# Altium footprint library BGA_Rect.PcbLib: 17 footprints (part 1 of 2)
Each footprint in its own frame and in the unit in brackets; x right, y up, seen from the top. Pads: shape width x height; smd on the part's side, far side on the other; paste and mask are expansions set on the pad; w line width, h text height; cw(c..) or ccw(c..) is an arc to the next point about the centre after c.
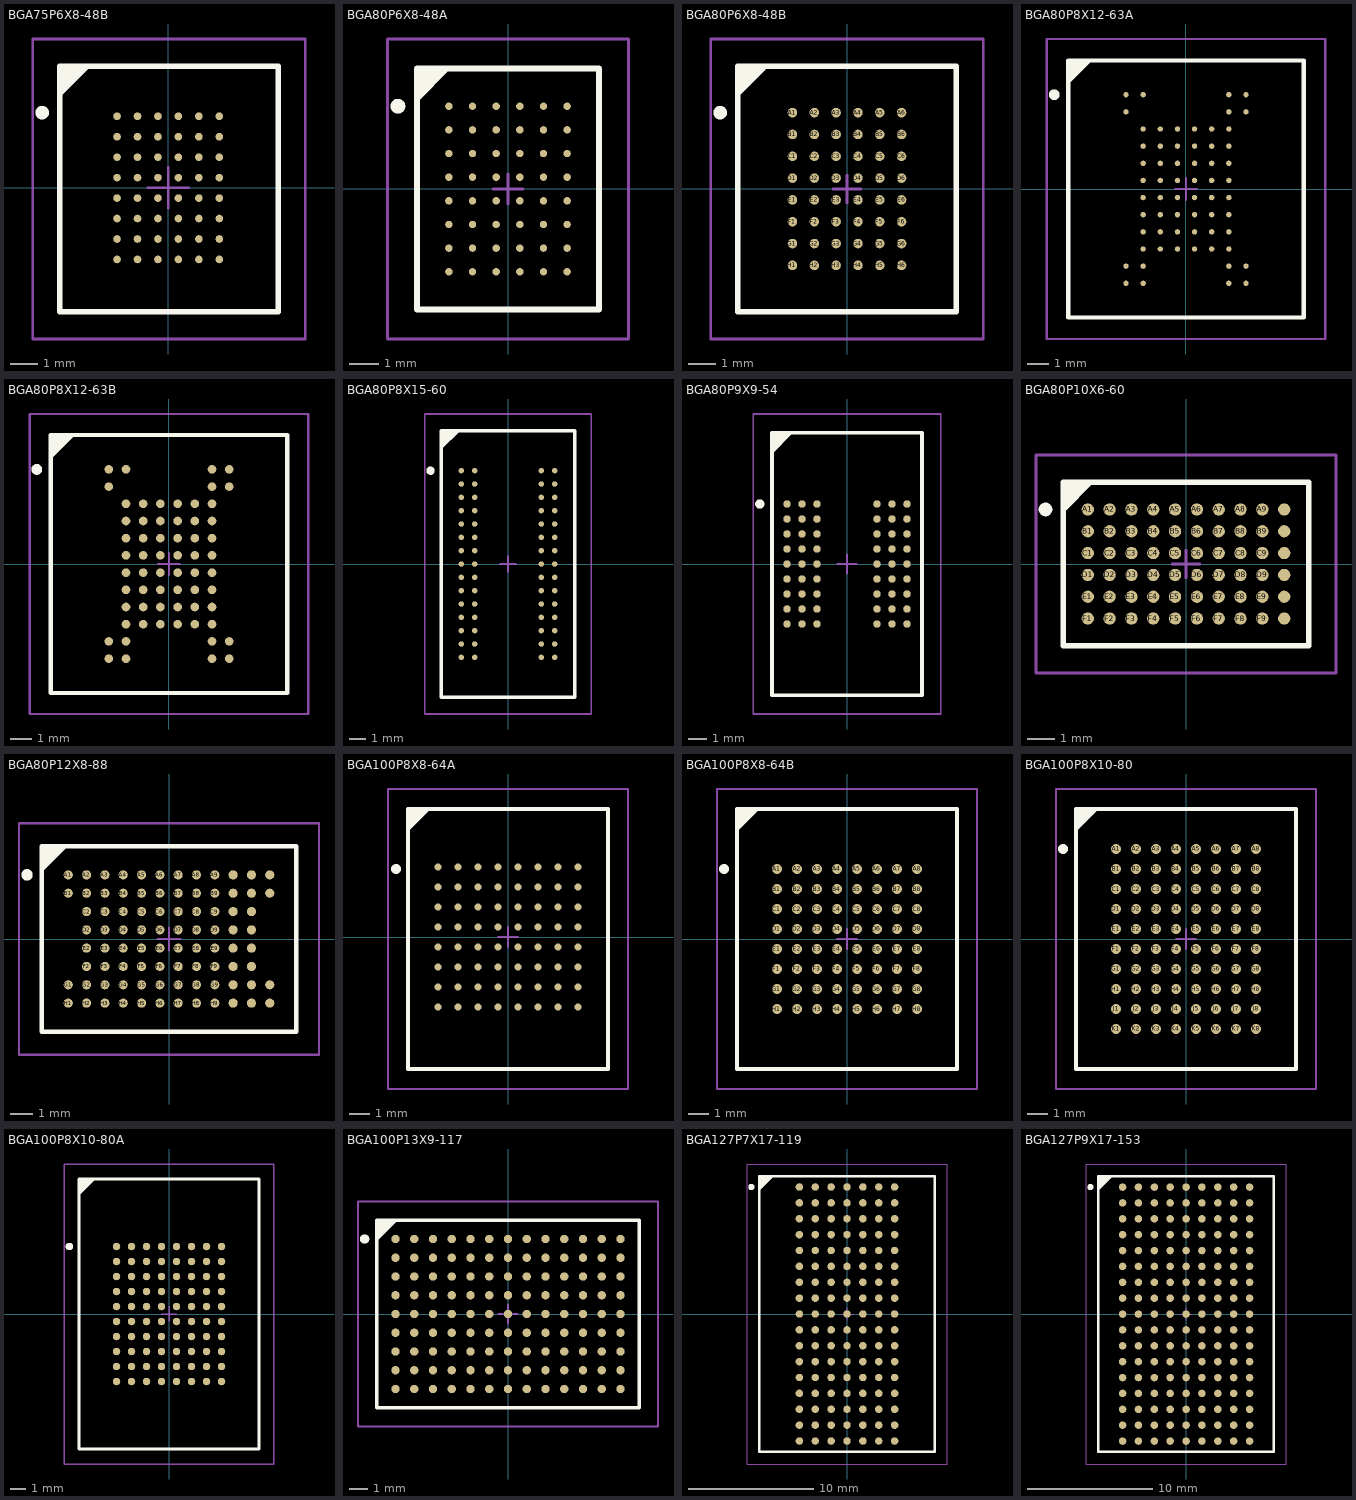
[diagram p0: the footprints below, top view; thin cyan lines are the x and y axes]

## BGA75P6X8-48B [mm] "BGA, 48-Leads, Body 9x8mm, Pitch 0.75mm"
height 1.2
pads (48):
  round 0.28 smd mask+0.09: A1(-1.875,2.625) A2(-1.125,2.625) A3(-0.375,2.625) A4(0.375,2.625) A5(1.125,2.625) A6(1.875,2.625) B1(-1.875,1.875) B2(-1.125,1.875) B3(-0.375,1.875) B4(0.375,1.875) B5(1.125,1.875) B6(1.875,1.875) C1(-1.875,1.125) C2(-1.125,1.125) C3(-0.375,1.125) C4(0.375,1.125) C5(1.125,1.125) C6(1.875,1.125) D1(-1.875,0.375) D2(-1.125,0.375) D3(-0.375,0.375) D4(0.375,0.375) D5(1.125,0.375) D6(1.875,0.375) E1(-1.875,-0.375) E2(-1.125,-0.375) E3(-0.375,-0.375) E4(0.375,-0.375) E5(1.125,-0.375) E6(1.875,-0.375) F1(-1.875,-1.125) F2(-1.125,-1.125) F3(-0.375,-1.125) F4(0.375,-1.125) F5(1.125,-1.125) F6(1.875,-1.125) G1(-1.875,-1.875) G2(-1.125,-1.875) G3(-0.375,-1.875) G4(0.375,-1.875) G5(1.125,-1.875) G6(1.875,-1.875) H1(-1.875,-2.625) H2(-1.125,-2.625) H3(-0.375,-2.625) H4(0.375,-2.625) H5(1.125,-2.625) H6(1.875,-2.625)
Top Overlay:
  circle w0.25: c-4.62,2.758 r0.125
  region: -2.97,4.458 -3.97,3.458 -3.97,4.458
  lines w0.2: -3.97,3.458 -2.97,4.458 ; -3.97,-4.542 -3.97,4.458 4.03,4.458 4.03,-4.542 -3.97,-4.542
Mechanical 13:
  lines w0.1: -3.97,-4.542 -3.97,4.458 4.03,4.458 4.03,-4.542 -3.97,-4.542
Mechanical 15:
  lines w0.1: -0.75,0 0.75,0 ; 0,-0.75 0,0.75 ; -4.97,-5.542 -4.97,5.458 5.03,5.458 5.03,-5.542 -4.97,-5.542
3D body: height 1.2, standoff 0, extent -4,-4.525 4,4.475

## BGA80P6X8-48A [mm] "48-Ball Fine Pitch Ball Grid Array Rectangular 0.8 mm Pitch"
height 1.2
pads (48):
  round 0.25 smd: A1(-2,2.8) A2(-1.2,2.8) A3(-0.4,2.8) A4(0.4,2.8) A5(1.2,2.8) A6(2,2.8) B1(-2,2) B2(-1.2,2) B3(-0.4,2) B4(0.4,2) B5(1.2,2) B6(2,2) C1(-2,1.2) C2(-1.2,1.2) C3(-0.4,1.2) C4(0.4,1.2) C5(1.2,1.2) C6(2,1.2) D1(-2,0.4) D2(-1.2,0.4) D3(-0.4,0.4) D4(0.4,0.4) D5(1.2,0.4) D6(2,0.4) E1(-2,-0.4) E2(-1.2,-0.4) E3(-0.4,-0.4) E4(0.4,-0.4) E5(1.2,-0.4) E6(2,-0.4) F1(-2,-1.2) F2(-1.2,-1.2) F3(-0.4,-1.2) F4(0.4,-1.2) F5(1.2,-1.2) F6(2,-1.2) G1(-2,-2) G2(-1.2,-2) G3(-0.4,-2) G4(0.4,-2) G5(1.2,-2) G6(2,-2) H1(-2,-2.8) H2(-1.2,-2.8) H3(-0.4,-2.8) H4(0.4,-2.8) H5(1.2,-2.8) H6(2,-2.8)
Top Overlay:
  circle w0.25: c-3.725,2.8 r0.125
  region: -2.075,4.075 -3.075,3.075 -3.075,4.075
  lines w0.2: -3.075,3.075 -2.075,4.075 ; -3.075,-4.075 3.075,-4.075 3.075,4.075 -3.075,4.075 -3.075,-4.075
Mechanical 13:
  lines w0.1: -3.075,-4.075 3.075,-4.075 3.075,4.075 -3.075,4.075 -3.075,-4.075
Mechanical 15:
  lines w0.1: -0.5,0 0.5,0 ; 0,-0.5 0,0.5 ; -4.075,-5.075 4.075,-5.075 4.075,5.075 -4.075,5.075 -4.075,-5.075
3D body: height 1.2, standoff 0, extent -3.075,-4.075 3.075,4.075

## BGA80P6X8-48B [mm] "BGA, 48-Leads, Body 9x8mm, Pitch 0.8mm"
height 1.2
pads (48):
  round 0.35 smd: A1(-2,2.8) A2(-1.2,2.8) A3(-0.4,2.8) A4(0.4,2.8) A5(1.2,2.8) A6(2,2.8) B1(-2,2) B2(-1.2,2) B3(-0.4,2) B4(0.4,2) B5(1.2,2) B6(2,2) C1(-2,1.2) C2(-1.2,1.2) C3(-0.4,1.2) C4(0.4,1.2) C5(1.2,1.2) C6(2,1.2) D1(-2,0.4) D2(-1.2,0.4) D3(-0.4,0.4) D4(0.4,0.4) D5(1.2,0.4) D6(2,0.4) E1(-2,-0.4) E2(-1.2,-0.4) E3(-0.4,-0.4) E4(0.4,-0.4) E5(1.2,-0.4) E6(2,-0.4) F1(-2,-1.2) F2(-1.2,-1.2) F3(-0.4,-1.2) F4(0.4,-1.2) F5(1.2,-1.2) F6(2,-1.2) G1(-2,-2) G2(-1.2,-2) G3(-0.4,-2) G4(0.4,-2) G5(1.2,-2) G6(2,-2) H1(-2,-2.8) H2(-1.2,-2.8) H3(-0.4,-2.8) H4(0.4,-2.8) H5(1.2,-2.8) H6(2,-2.8)
Top Overlay:
  circle w0.25: c-4.65,2.8 r0.125
  region: -3,4.5 -4,3.5 -4,4.5
  lines w0.2: -4,3.5 -3,4.5 ; -4,-4.5 4,-4.5 4,4.5 -4,4.5 -4,-4.5
Mechanical 13:
  lines w0.1: -4,-4.5 4,-4.5 4,4.5 -4,4.5 -4,-4.5
Mechanical 15:
  lines w0.1: -0.5,0 0.5,0 ; 0,-0.5 0,0.5 ; -5,-5.5 5,-5.5 5,5.5 -5,5.5 -5,-5.5
3D body: height 1.2, standoff 0, extent -4,-4.5 4,4.5

## BGA80P8X12-63A [mm] "63-Ball Fine Pitch Ball Grid Array Rectangular 0.8 mm Pitch"
height 1.2
pads (63):
  round 0.25 smd: A1(-2.8,4.4) A2(-2,4.4) A7(2,4.4) A8(2.8,4.4) B1(-2.8,3.6) B7(2,3.6) B8(2.8,3.6) C2(-2,2.8) C3(-1.2,2.8) C4(-0.4,2.8) C5(0.4,2.8) C6(1.2,2.8) C7(2,2.8) D2(-2,2) D3(-1.2,2) D4(-0.4,2) D5(0.4,2) D6(1.2,2) D7(2,2) E2(-2,1.2) E3(-1.2,1.2) E4(-0.4,1.2) E5(0.4,1.2) E6(1.2,1.2) E7(2,1.2) F2(-2,0.4) F3(-1.2,0.4) F4(-0.4,0.4) F5(0.4,0.4) F6(1.2,0.4) F7(2,0.4) G2(-2,-0.4) G3(-1.2,-0.4) G4(-0.4,-0.4) G5(0.4,-0.4) G6(1.2,-0.4) G7(2,-0.4) H2(-2,-1.2) H3(-1.2,-1.2) H4(-0.4,-1.2) H5(0.4,-1.2) H6(1.2,-1.2) H7(2,-1.2) J2(-2,-2) J3(-1.2,-2) J4(-0.4,-2) J5(0.4,-2) J6(1.2,-2) J7(2,-2) K2(-2,-2.8) K3(-1.2,-2.8) K4(-0.4,-2.8) K5(0.4,-2.8) K6(1.2,-2.8) K7(2,-2.8) L1(-2.8,-3.6) L2(-2,-3.6) L7(2,-3.6) L8(2.8,-3.6) M1(-2.8,-4.4) M2(-2,-4.4) M7(2,-4.4) M8(2.8,-4.4)
Top Overlay:
  circle w0.25: c-6.15,4.4 r0.125
  region: -4.5,6 -5.5,5 -5.5,6
  lines w0.2: -5.5,5 -4.5,6 ; -5.5,-6 -5.5,6 5.5,6 5.5,-6 -5.5,-6
Mechanical 13:
  lines w0.1: -5.5,-6 -5.5,6 5.5,6 5.5,-6 -5.5,-6
Mechanical 15:
  lines w0.1: -0.5,0 0.5,0 ; 0,-0.5 0,0.5 ; -6.5,-7 -6.5,7 6.5,7 6.5,-7 -6.5,-7
3D body: height 1.2, standoff 0, extent -5.5,-6 5.5,6

## BGA80P8X12-63B [mm] "63-Ball Fine Pitch Ball Grid Array Rectangular 0.8 mm Pitch"
height 1.7
pads (63):
  round 0.4 smd: A1(-2.8,4.4) A2(-2,4.4) A7(2,4.4) A8(2.8,4.4) B1(-2.8,3.6) B7(2,3.6) B8(2.8,3.6) C2(-2,2.8) C3(-1.2,2.8) C4(-0.4,2.8) C5(0.4,2.8) C6(1.2,2.8) C7(2,2.8) D2(-2,2) D3(-1.2,2) D4(-0.4,2) D5(0.4,2) D6(1.2,2) D7(2,2) E2(-2,1.2) E3(-1.2,1.2) E4(-0.4,1.2) E5(0.4,1.2) E6(1.2,1.2) E7(2,1.2) F2(-2,0.4) F3(-1.2,0.4) F4(-0.4,0.4) F5(0.4,0.4) F6(1.2,0.4) F7(2,0.4) G2(-2,-0.4) G3(-1.2,-0.4) G4(-0.4,-0.4) G5(0.4,-0.4) G6(1.2,-0.4) G7(2,-0.4) H2(-2,-1.2) H3(-1.2,-1.2) H4(-0.4,-1.2) H5(0.4,-1.2) H6(1.2,-1.2) H7(2,-1.2) J2(-2,-2) J3(-1.2,-2) J4(-0.4,-2) J5(0.4,-2) J6(1.2,-2) J7(2,-2) K2(-2,-2.8) K3(-1.2,-2.8) K4(-0.4,-2.8) K5(0.4,-2.8) K6(1.2,-2.8) K7(2,-2.8) L1(-2.8,-3.6) L2(-2,-3.6) L7(2,-3.6) L8(2.8,-3.6) M1(-2.8,-4.4) M2(-2,-4.4) M7(2,-4.4) M8(2.8,-4.4)
Top Overlay:
  circle w0.25: c-6.15,4.4 r0.125
  region: -4.5,6 -5.5,5 -5.5,6
  lines w0.2: -5.5,5 -4.5,6 ; -5.5,-6 -5.5,6 5.5,6 5.5,-6 -5.5,-6
Mechanical 13:
  lines w0.1: -5.475,-5.975 -5.475,5.975 5.475,5.975 5.475,-5.975 -5.475,-5.975
Mechanical 15:
  lines w0.1: -0.5,0 0.5,0 ; 0,-0.5 0,0.5 ; -6.475,-6.975 -6.475,6.975 6.475,6.975 6.475,-6.975 -6.475,-6.975
3D body: height 1.7, standoff 0, extent -5.475,-5.975 5.475,5.975

## BGA80P8X15-60 [mm] "BGA, 60-Leads, Body 16x8mm, Pitch 0.8mm"
height 1.2
pads (60):
  round 0.33 smd: A1(-2.8,5.6) A2(-2,5.6) A7(2,5.6) A8(2.8,5.6) B1(-2.8,4.8) B2(-2,4.8) B7(2,4.8) B8(2.8,4.8) C1(-2.8,4) C2(-2,4) C7(2,4) C8(2.8,4) D1(-2.8,3.2) D2(-2,3.2) D7(2,3.2) D8(2.8,3.2) E1(-2.8,2.4) E2(-2,2.4) E7(2,2.4) E8(2.8,2.4) F1(-2.8,1.6) F2(-2,1.6) F7(2,1.6) F8(2.8,1.6) G1(-2.8,0.8) G2(-2,0.8) G7(2,0.8) G8(2.8,0.8) H1(-2.8,0) H2(-2,0) H7(2,0) H8(2.8,0) J1(-2.8,-0.8) J2(-2,-0.8) J7(2,-0.8) J8(2.8,-0.8) K1(-2.8,-1.6) K2(-2,-1.6) K7(2,-1.6) K8(2.8,-1.6) L1(-2.8,-2.4) L2(-2,-2.4) L7(2,-2.4) L8(2.8,-2.4) M1(-2.8,-3.2) M2(-2,-3.2) M7(2,-3.2) M8(2.8,-3.2) N1(-2.8,-4) N2(-2,-4) N7(2,-4) N8(2.8,-4) P1(-2.8,-4.8) P2(-2,-4.8) P7(2,-4.8) P8(2.8,-4.8) R1(-2.8,-5.6) R2(-2,-5.6) R7(2,-5.6) R8(2.8,-5.6)
Top Overlay:
  circle w0.25: c-4.65,5.6 r0.125
  region: -3,8 -4,7 -4,8
  lines w0.2: -4,7 -3,8 ; -4,-8 -4,8 4,8 4,-8 -4,-8
Mechanical 13:
  lines w0.1: -4,-8 -4,8 4,8 4,-8 -4,-8
Mechanical 15:
  lines w0.1: -0.5,0 0.5,0 ; 0,-0.5 0,0.5 ; -5,-9 -5,9 5,9 5,-9 -5,-9
3D body: height 1.2, standoff 0, extent -4,-8 4,8

## BGA80P9X9-54 [mm] "54-Ball VFBGA, 8 x 14 mm Body, 0.8 mm Pitch (FG)"
height 1
pads (54):
  round 0.4 smd: A1(-3.2,3.2) A2(-2.4,3.2) A3(-1.6,3.2) A7(1.6,3.2) A8(2.4,3.2) A9(3.2,3.2) B1(-3.2,2.4) B2(-2.4,2.4) B3(-1.6,2.4) B7(1.6,2.4) B8(2.4,2.4) B9(3.2,2.4) C1(-3.2,1.6) C2(-2.4,1.6) C3(-1.6,1.6) C7(1.6,1.6) C8(2.4,1.6) C9(3.2,1.6) D1(-3.2,0.8) D2(-2.4,0.8) D3(-1.6,0.8) D7(1.6,0.8) D8(2.4,0.8) D9(3.2,0.8) E1(-3.2,0) E2(-2.4,0) E3(-1.6,0) E7(1.6,0) E8(2.4,0) E9(3.2,0) F1(-3.2,-0.8) F2(-2.4,-0.8) F3(-1.6,-0.8) F7(1.6,-0.8) F8(2.4,-0.8) F9(3.2,-0.8) G1(-3.2,-1.6) G2(-2.4,-1.6) G3(-1.6,-1.6) G7(1.6,-1.6) G8(2.4,-1.6) G9(3.2,-1.6) H1(-3.2,-2.4) H2(-2.4,-2.4) H3(-1.6,-2.4) H7(1.6,-2.4) H8(2.4,-2.4) H9(3.2,-2.4) J1(-3.2,-3.2) J2(-2.4,-3.2) J3(-1.6,-3.2) J7(1.6,-3.2) J8(2.4,-3.2) J9(3.2,-3.2)
Top Overlay:
  circle w0.25: c-4.65,3.2 r0.125
  region: -3,7 -4,6 -4,7
  lines w0.2: -4,6 -3,7 ; -4,-7 4,-7 4,7 -4,7 -4,-7
Mechanical 13:
  lines w0.1: -4,-7 4,-7 4,7 -4,7 -4,-7
Mechanical 15:
  lines w0.1: -0.5,0 0.5,0 ; 0,-0.5 0,0.5 ; -5,-8 5,-8 5,8 -5,8 -5,-8
3D body: height 1, standoff 0, extent -4,-7 4,7

## BGA80P10X6-60 [mm] "BGA, 60-Leads, Body 6x9mm, Pitch 0.8mm"
height 1.3
pads (60):
  round 0.45 smd: A1(-3.6,2) A2(-2.8,2) A3(-2,2) A4(-1.2,2) A5(-0.4,2) A6(0.4,2) A7(1.2,2) A8(2,2) A9(2.8,2) A10(3.6,2) B1(-3.6,1.2) B2(-2.8,1.2) B3(-2,1.2) B4(-1.2,1.2) B5(-0.4,1.2) B6(0.4,1.2) B7(1.2,1.2) B8(2,1.2) B9(2.8,1.2) B10(3.6,1.2) C1(-3.6,0.4) C2(-2.8,0.4) C3(-2,0.4) C4(-1.2,0.4) C5(-0.4,0.4) C6(0.4,0.4) C7(1.2,0.4) C8(2,0.4) C9(2.8,0.4) C10(3.6,0.4) D1(-3.6,-0.4) D2(-2.8,-0.4) D3(-2,-0.4) D4(-1.2,-0.4) D5(-0.4,-0.4) D6(0.4,-0.4) D7(1.2,-0.4) D8(2,-0.4) D9(2.8,-0.4) D10(3.6,-0.4) E1(-3.6,-1.2) E2(-2.8,-1.2) E3(-2,-1.2) E4(-1.2,-1.2) E5(-0.4,-1.2) E6(0.4,-1.2) E7(1.2,-1.2) E8(2,-1.2) E9(2.8,-1.2) E10(3.6,-1.2) F1(-3.6,-2) F2(-2.8,-2) F3(-2,-2) F4(-1.2,-2) F5(-0.4,-2) F6(0.4,-2) F7(1.2,-2) F8(2,-2) F9(2.8,-2) F10(3.6,-2)
Top Overlay:
  circle w0.25: c-5.15,2 r0.125
  region: -3.5,3 -4.5,2 -4.5,3
  lines w0.2: -4.5,2 -3.5,3 ; -4.5,-3 -4.5,3 4.5,3 4.5,-3 -4.5,-3
Mechanical 13:
  lines w0.1: -4.5,-3 -4.5,3 4.5,3 4.5,-3 -4.5,-3
Mechanical 15:
  lines w0.1: -0.5,0 0.5,0 ; 0,-0.5 0,0.5 ; -5.5,-4 -5.5,4 5.5,4 5.5,-4 -5.5,-4
3D body: height 1.3, standoff 0.3, extent -4.5,-3 4.5,3

## BGA80P12X8-88 [mm] "BGA, 88-Leads, Body 8x11mm, Pitch 0.8mm"
height 1.4
pads (88):
  round 0.4 smd: A1(-4.4,2.8) A2(-3.6,2.8) A3(-2.8,2.8) A4(-2,2.8) A5(-1.2,2.8) A6(-0.4,2.8) A7(0.4,2.8) A8(1.2,2.8) A9(2,2.8) A10(2.8,2.8) A11(3.6,2.8) A12(4.4,2.8) B1(-4.4,2) B2(-3.6,2) B3(-2.8,2) B4(-2,2) B5(-1.2,2) B6(-0.4,2) B7(0.4,2) B8(1.2,2) B9(2,2) B10(2.8,2) B11(3.6,2) B12(4.4,2) C2(-3.6,1.2) C3(-2.8,1.2) C4(-2,1.2) C5(-1.2,1.2) C6(-0.4,1.2) C7(0.4,1.2) C8(1.2,1.2) C9(2,1.2) C10(2.8,1.2) C11(3.6,1.2) D2(-3.6,0.4) D3(-2.8,0.4) D4(-2,0.4) D5(-1.2,0.4) D6(-0.4,0.4) D7(0.4,0.4) D8(1.2,0.4) D9(2,0.4) D10(2.8,0.4) D11(3.6,0.4) E2(-3.6,-0.4) E3(-2.8,-0.4) E4(-2,-0.4) E5(-1.2,-0.4) E6(-0.4,-0.4) E7(0.4,-0.4) E8(1.2,-0.4) E9(2,-0.4) E10(2.8,-0.4) E11(3.6,-0.4) F2(-3.6,-1.2) F3(-2.8,-1.2) F4(-2,-1.2) F5(-1.2,-1.2) F6(-0.4,-1.2) F7(0.4,-1.2) F8(1.2,-1.2) F9(2,-1.2) F10(2.8,-1.2) F11(3.6,-1.2) G1(-4.4,-2) G2(-3.6,-2) G3(-2.8,-2) G4(-2,-2) G5(-1.2,-2) G6(-0.4,-2) G7(0.4,-2) G8(1.2,-2) G9(2,-2) G10(2.8,-2) G11(3.6,-2) G12(4.4,-2) H1(-4.4,-2.8) H2(-3.6,-2.8) H3(-2.8,-2.8) H4(-2,-2.8) H5(-1.2,-2.8) H6(-0.4,-2.8) H7(0.4,-2.8) H8(1.2,-2.8) H9(2,-2.8) H10(2.8,-2.8) H11(3.6,-2.8) H12(4.4,-2.8)
Top Overlay:
  circle w0.25: c-6.2,2.8 r0.125
  region: -4.55,4.05 -5.55,3.05 -5.55,4.05
  lines w0.2: -5.55,3.05 -4.55,4.05 ; -5.55,-4.05 -5.55,4.05 5.55,4.05 5.55,-4.05 -5.55,-4.05
Mechanical 13:
  lines w0.1: -5.55,-4.05 -5.55,4.05 5.55,4.05 5.55,-4.05 -5.55,-4.05
Mechanical 15:
  lines w0.1: -0.5,0 0.5,0 ; 0,-0.5 0,0.5 ; -6.55,-5.05 -6.55,5.05 6.55,5.05 6.55,-5.05 -6.55,-5.05
3D body: height 1.4, standoff 0, extent -5.55,-4.05 5.55,4.05

## BGA100P8X8-64A [mm] "BGA, 64-Leads, Body 13x11mm, Pitch 1mm"
height 1.2
pads (64):
  round 0.35 smd: A1(-3.5,3.5) A2(-2.5,3.5) A3(-1.5,3.5) A4(-0.5,3.5) A5(0.5,3.5) A6(1.5,3.5) A7(2.5,3.5) A8(3.5,3.5) B1(-3.5,2.5) B2(-2.5,2.5) B3(-1.5,2.5) B4(-0.5,2.5) B5(0.5,2.5) B6(1.5,2.5) B7(2.5,2.5) B8(3.5,2.5) C1(-3.5,1.5) C2(-2.5,1.5) C3(-1.5,1.5) C4(-0.5,1.5) C5(0.5,1.5) C6(1.5,1.5) C7(2.5,1.5) C8(3.5,1.5) D1(-3.5,0.5) D2(-2.5,0.5) D3(-1.5,0.5) D4(-0.5,0.5) D5(0.5,0.5) D6(1.5,0.5) D7(2.5,0.5) D8(3.5,0.5) E1(-3.5,-0.5) E2(-2.5,-0.5) E3(-1.5,-0.5) E4(-0.5,-0.5) E5(0.5,-0.5) E6(1.5,-0.5) E7(2.5,-0.5) E8(3.5,-0.5) F1(-3.5,-1.5) F2(-2.5,-1.5) F3(-1.5,-1.5) F4(-0.5,-1.5) F5(0.5,-1.5) F6(1.5,-1.5) F7(2.5,-1.5) F8(3.5,-1.5) G1(-3.5,-2.5) G2(-2.5,-2.5) G3(-1.5,-2.5) G4(-0.5,-2.5) G5(0.5,-2.5) G6(1.5,-2.5) G7(2.5,-2.5) G8(3.5,-2.5) H1(-3.5,-3.5) H2(-2.5,-3.5) H3(-1.5,-3.5) H4(-0.5,-3.5) H5(0.5,-3.5) H6(1.5,-3.5) H7(2.5,-3.5) H8(3.5,-3.5)
Top Overlay:
  circle w0.25: c-5.6,3.4 r0.125
  region: -4,6.4 -5,5.4 -5,6.4
  lines w0.2: -5,5.4 -4,6.4 ; -5,-6.6 -5,6.4 5,6.4 5,-6.6 -5,-6.6
Mechanical 13:
  lines w0.1: -5,-6.6 -5,6.4 5,6.4 5,-6.6 -5,-6.6
Mechanical 15:
  lines w0.1: -0.5,0 0.5,0 ; 0,-0.5 0,0.5 ; -6,-7.6 -6,7.4 6,7.4 6,-7.6 -6,-7.6
3D body: height 1.2, standoff 0, extent -4.999,-6.599 4.999,6.399

## BGA100P8X8-64B [mm] "64-Ball Fortified Ball Grid Array Rectangular 1 mm Pitch"
height 1.4
pads (64):
  round 0.5 smd: A1(-3.5,3.5) A2(-2.5,3.5) A3(-1.5,3.5) A4(-0.5,3.5) A5(0.5,3.5) A6(1.5,3.5) A7(2.5,3.5) A8(3.5,3.5) B1(-3.5,2.5) B2(-2.5,2.5) B3(-1.5,2.5) B4(-0.5,2.5) B5(0.5,2.5) B6(1.5,2.5) B7(2.5,2.5) B8(3.5,2.5) C1(-3.5,1.5) C2(-2.5,1.5) C3(-1.5,1.5) C4(-0.5,1.5) C5(0.5,1.5) C6(1.5,1.5) C7(2.5,1.5) C8(3.5,1.5) D1(-3.5,0.5) D2(-2.5,0.5) D3(-1.5,0.5) D4(-0.5,0.5) D5(0.5,0.5) D6(1.5,0.5) D7(2.5,0.5) D8(3.5,0.5) E1(-3.5,-0.5) E2(-2.5,-0.5) E3(-1.5,-0.5) E4(-0.5,-0.5) E5(0.5,-0.5) E6(1.5,-0.5) E7(2.5,-0.5) E8(3.5,-0.5) F1(-3.5,-1.5) F2(-2.5,-1.5) F3(-1.5,-1.5) F4(-0.5,-1.5) F5(0.5,-1.5) F6(1.5,-1.5) F7(2.5,-1.5) F8(3.5,-1.5) G1(-3.5,-2.5) G2(-2.5,-2.5) G3(-1.5,-2.5) G4(-0.5,-2.5) G5(0.5,-2.5) G6(1.5,-2.5) G7(2.5,-2.5) G8(3.5,-2.5) H1(-3.5,-3.5) H2(-2.5,-3.5) H3(-1.5,-3.5) H4(-0.5,-3.5) H5(0.5,-3.5) H6(1.5,-3.5) H7(2.5,-3.5) H8(3.5,-3.5)
Top Overlay:
  circle w0.25: c-6.15,3.5 r0.125
  region: -4.5,6.5 -5.5,5.5 -5.5,6.5
  lines w0.2: -5.5,5.5 -4.5,6.5 ; -5.5,-6.5 5.5,-6.5 5.5,6.5 -5.5,6.5 -5.5,-6.5
Mechanical 13:
  lines w0.1: -5.5,-6.5 5.5,-6.5 5.5,6.5 -5.5,6.5 -5.5,-6.5
Mechanical 15:
  lines w0.1: -0.5,0 0.5,0 ; 0,-0.5 0,0.5 ; -6.5,-7.5 6.5,-7.5 6.5,7.5 -6.5,7.5 -6.5,-7.5
3D body: height 1.4, standoff 0, extent -5.499,-6.499 5.499,6.499

## BGA100P8X10-80 [mm] "80-Ball Fortified Ball Grid Array Rectangular 1 mm Pitch"
height 1.6
pads (80):
  round 0.5 smd: A1(-3.5,4.5) A2(-2.5,4.5) A3(-1.5,4.5) A4(-0.5,4.5) A5(0.5,4.5) A6(1.5,4.5) A7(2.5,4.5) A8(3.5,4.5) B1(-3.5,3.5) B2(-2.5,3.5) B3(-1.5,3.5) B4(-0.5,3.5) B5(0.5,3.5) B6(1.5,3.5) B7(2.5,3.5) B8(3.5,3.5) C1(-3.5,2.5) C2(-2.5,2.5) C3(-1.5,2.5) C4(-0.5,2.5) C5(0.5,2.5) C6(1.5,2.5) C7(2.5,2.5) C8(3.5,2.5) D1(-3.5,1.5) D2(-2.5,1.5) D3(-1.5,1.5) D4(-0.5,1.5) D5(0.5,1.5) D6(1.5,1.5) D7(2.5,1.5) D8(3.5,1.5) E1(-3.5,0.5) E2(-2.5,0.5) E3(-1.5,0.5) E4(-0.5,0.5) E5(0.5,0.5) E6(1.5,0.5) E7(2.5,0.5) E8(3.5,0.5) F1(-3.5,-0.5) F2(-2.5,-0.5) F3(-1.5,-0.5) F4(-0.5,-0.5) F5(0.5,-0.5) F6(1.5,-0.5) F7(2.5,-0.5) F8(3.5,-0.5) G1(-3.5,-1.5) G2(-2.5,-1.5) G3(-1.5,-1.5) G4(-0.5,-1.5) G5(0.5,-1.5) G6(1.5,-1.5) G7(2.5,-1.5) G8(3.5,-1.5) H1(-3.5,-2.5) H2(-2.5,-2.5) H3(-1.5,-2.5) H4(-0.5,-2.5) H5(0.5,-2.5) H6(1.5,-2.5) H7(2.5,-2.5) H8(3.5,-2.5) J1(-3.5,-3.5) J2(-2.5,-3.5) J3(-1.5,-3.5) J4(-0.5,-3.5) J5(0.5,-3.5) J6(1.5,-3.5) J7(2.5,-3.5) J8(3.5,-3.5) K1(-3.5,-4.5) K2(-2.5,-4.5) K3(-1.5,-4.5) K4(-0.5,-4.5) K5(0.5,-4.5) K6(1.5,-4.5) K7(2.5,-4.5) K8(3.5,-4.5)
Top Overlay:
  circle w0.25: c-6.15,4.5 r0.125
  region: -4.5,6.5 -5.5,5.5 -5.5,6.5
  lines w0.2: -5.5,5.5 -4.5,6.5 ; -5.5,-6.5 -5.5,6.5 5.5,6.5 5.5,-6.5 -5.5,-6.5
Mechanical 13:
  lines w0.1: -5.5,-6.5 -5.5,6.5 5.5,6.5 5.5,-6.5 -5.5,-6.5
Mechanical 15:
  lines w0.1: -0.5,0 0.5,0 ; 0,-0.5 0,0.5 ; -6.5,-7.5 -6.5,7.5 6.5,7.5 6.5,-7.5 -6.5,-7.5
3D body: height 1.6, standoff 0, extent -5.5,-6.5 5.5,6.5

## BGA100P8X10-80A [mm] "80-Ball Fortified Ball Grid Array Rectangular 1 mm Pitch"
height 1.6
pads (80):
  round 0.5 smd: A1(-3.5,4.5) A2(-2.5,4.5) A3(-1.5,4.5) A4(-0.5,4.5) A5(0.5,4.5) A6(1.5,4.5) A7(2.5,4.5) A8(3.5,4.5) B1(-3.5,3.5) B2(-2.5,3.5) B3(-1.5,3.5) B4(-0.5,3.5) B5(0.5,3.5) B6(1.5,3.5) B7(2.5,3.5) B8(3.5,3.5) C1(-3.5,2.5) C2(-2.5,2.5) C3(-1.5,2.5) C4(-0.5,2.5) C5(0.5,2.5) C6(1.5,2.5) C7(2.5,2.5) C8(3.5,2.5) D1(-3.5,1.5) D2(-2.5,1.5) D3(-1.5,1.5) D4(-0.5,1.5) D5(0.5,1.5) D6(1.5,1.5) D7(2.5,1.5) D8(3.5,1.5) E1(-3.5,0.5) E2(-2.5,0.5) E3(-1.5,0.5) E4(-0.5,0.5) E5(0.5,0.5) E6(1.5,0.5) E7(2.5,0.5) E8(3.5,0.5) F1(-3.5,-0.5) F2(-2.5,-0.5) F3(-1.5,-0.5) F4(-0.5,-0.5) F5(0.5,-0.5) F6(1.5,-0.5) F7(2.5,-0.5) F8(3.5,-0.5) G1(-3.5,-1.5) G2(-2.5,-1.5) G3(-1.5,-1.5) G4(-0.5,-1.5) G5(0.5,-1.5) G6(1.5,-1.5) G7(2.5,-1.5) G8(3.5,-1.5) H1(-3.5,-2.5) H2(-2.5,-2.5) H3(-1.5,-2.5) H4(-0.5,-2.5) H5(0.5,-2.5) H6(1.5,-2.5) H7(2.5,-2.5) H8(3.5,-2.5) J1(-3.5,-3.5) J2(-2.5,-3.5) J3(-1.5,-3.5) J4(-0.5,-3.5) J5(0.5,-3.5) J6(1.5,-3.5) J7(2.5,-3.5) J8(3.5,-3.5) K1(-3.5,-4.5) K2(-2.5,-4.5) K3(-1.5,-4.5) K4(-0.5,-4.5) K5(0.5,-4.5) K6(1.5,-4.5) K7(2.5,-4.5) K8(3.5,-4.5)
Top Overlay:
  circle w0.25: c-6.65,4.5 r0.125
  region: -5,9 -6,8 -6,9
  lines w0.2: -6,8 -5,9 ; -6,-9 6,-9 6,9 -6,9 -6,-9
Mechanical 13:
  lines w0.1: -6,-9 6,-9 6,9 -6,9 -6,-9
Mechanical 15:
  lines w0.1: -0.5,0 0.5,0 ; 0,-0.5 0,0.5 ; -7,-10 7,-10 7,10 -7,10 -7,-10
3D body: height 1.6, standoff 0, extent -6,-9 6,9

## BGA100P13X9-117 [mm] "BGA, 117-Leads, Body 10.0x14.0mm,  Pitch 1.00mm"
height 1.7
pads (117):
  round 0.45 smd: A1(-6,4) A2(-5,4) A3(-4,4) A4(-3,4) A5(-2,4) A6(-1,4) A7(0,4) A8(1,4) A9(2,4) A10(3,4) A11(4,4) A12(5,4) A13(6,4) B1(-6,3) B2(-5,3) B3(-4,3) B4(-3,3) B5(-2,3) B6(-1,3) B7(0,3) B8(1,3) B9(2,3) B10(3,3) B11(4,3) B12(5,3) B13(6,3) C1(-6,2) C2(-5,2) C3(-4,2) C4(-3,2) C5(-2,2) C6(-1,2) C7(0,2) C8(1,2) C9(2,2) C10(3,2) C11(4,2) C12(5,2) C13(6,2) D1(-6,1) D2(-5,1) D3(-4,1) D4(-3,1) D5(-2,1) D6(-1,1) D7(0,1) D8(1,1) D9(2,1) D10(3,1) D11(4,1) D12(5,1) D13(6,1) E1(-6,0) E2(-5,0) E3(-4,0) E4(-3,0) E5(-2,0) E6(-1,0) E7(0,0) E8(1,0) E9(2,0) E10(3,0) E11(4,0) E12(5,0) E13(6,0) F1(-6,-1) F2(-5,-1) F3(-4,-1) F4(-3,-1) F5(-2,-1) F6(-1,-1) F7(0,-1) F8(1,-1) F9(2,-1) F10(3,-1) F11(4,-1) F12(5,-1) F13(6,-1) G1(-6,-2) G2(-5,-2) G3(-4,-2) G4(-3,-2) G5(-2,-2) G6(-1,-2) G7(0,-2) G8(1,-2) G9(2,-2) G10(3,-2) G11(4,-2) G12(5,-2) G13(6,-2) H1(-6,-3) H2(-5,-3) H3(-4,-3) H4(-3,-3) H5(-2,-3) H6(-1,-3) H7(0,-3) H8(1,-3) H9(2,-3) H10(3,-3) H11(4,-3) H12(5,-3) H13(6,-3) J1(-6,-4) J2(-5,-4) J3(-4,-4) J4(-3,-4) J5(-2,-4) J6(-1,-4) J7(0,-4) J8(1,-4) J9(2,-4) J10(3,-4) J11(4,-4) J12(5,-4) J13(6,-4)
Top Overlay:
  circle w0.25: c-7.65,4 r0.125
  region: -6,5 -7,4 -7,5
  lines w0.2: -7,4 -6,5 ; -7,-5 7,-5 7,5 -7,5 -7,-5
Mechanical 13:
  lines w0.1: -7,-5 7,-5 7,5 -7,5 -7,-5
Mechanical 15:
  lines w0.1: -0.5,0 0.5,0 ; 0,-0.5 0,0.5 ; -8,-6 8,-6 8,6 -8,6 -8,-6
3D body: height 1.7, standoff 0.31, extent -7,-5 7,5

## BGA127P7X17-119 [mm] "BGA, 119-Leads, Body 22x14mm, Pitch 1.27mm"
height 3.5
pads (119):
  round 0.6 smd: A1(-3.81,10.16) A2(-2.54,10.16) A3(-1.27,10.16) A4(0,10.16) A5(1.27,10.16) A6(2.54,10.16) A7(3.81,10.16) B1(-3.81,8.89) B2(-2.54,8.89) B3(-1.27,8.89) B4(0,8.89) B5(1.27,8.89) B6(2.54,8.89) B7(3.81,8.89) C1(-3.81,7.62) C2(-2.54,7.62) C3(-1.27,7.62) C4(0,7.62) C5(1.27,7.62) C6(2.54,7.62) C7(3.81,7.62) D1(-3.81,6.35) D2(-2.54,6.35) D3(-1.27,6.35) D4(0,6.35) D5(1.27,6.35) D6(2.54,6.35) D7(3.81,6.35) E1(-3.81,5.08) E2(-2.54,5.08) E3(-1.27,5.08) E4(0,5.08) E5(1.27,5.08) E6(2.54,5.08) E7(3.81,5.08) F1(-3.81,3.81) F2(-2.54,3.81) F3(-1.27,3.81) F4(0,3.81) F5(1.27,3.81) F6(2.54,3.81) F7(3.81,3.81) G1(-3.81,2.54) G2(-2.54,2.54) G3(-1.27,2.54) G4(0,2.54) G5(1.27,2.54) G6(2.54,2.54) G7(3.81,2.54) H1(-3.81,1.27) H2(-2.54,1.27) H3(-1.27,1.27) H4(0,1.27) H5(1.27,1.27) H6(2.54,1.27) H7(3.81,1.27) J1(-3.81,0) J2(-2.54,0) J3(-1.27,0) J4(0,0) J5(1.27,0) J6(2.54,0) J7(3.81,0) K1(-3.81,-1.27) K2(-2.54,-1.27) K3(-1.27,-1.27) K4(0,-1.27) K5(1.27,-1.27) K6(2.54,-1.27) K7(3.81,-1.27) L1(-3.81,-2.54) L2(-2.54,-2.54) L3(-1.27,-2.54) L4(0,-2.54) L5(1.27,-2.54) L6(2.54,-2.54) L7(3.81,-2.54) M1(-3.81,-3.81) M2(-2.54,-3.81) M3(-1.27,-3.81) M4(0,-3.81) M5(1.27,-3.81) M6(2.54,-3.81) M7(3.81,-3.81) N1(-3.81,-5.08) N2(-2.54,-5.08) N3(-1.27,-5.08) N4(0,-5.08) N5(1.27,-5.08) N6(2.54,-5.08) N7(3.81,-5.08) P1(-3.81,-6.35) P2(-2.54,-6.35) P3(-1.27,-6.35) P4(0,-6.35) P5(1.27,-6.35) P6(2.54,-6.35) P7(3.81,-6.35) R1(-3.81,-7.62) R2(-2.54,-7.62) R3(-1.27,-7.62) R4(0,-7.62) R5(1.27,-7.62) R6(2.54,-7.62) R7(3.81,-7.62) T1(-3.81,-8.89) T2(-2.54,-8.89) T3(-1.27,-8.89) T4(0,-8.89) T5(1.27,-8.89) T6(2.54,-8.89) T7(3.81,-8.89) U1(-3.81,-10.16) U2(-2.54,-10.16) U3(-1.27,-10.16) U4(0,-10.16) U5(1.27,-10.16) U6(2.54,-10.16) U7(3.81,-10.16)
Top Overlay:
  circle w0.25: c-7.65,10.16 r0.125
  region: -6,11 -7,10 -7,11
  lines w0.2: -7,10 -6,11 ; -7,-11 -7,11 7,11 7,-11 -7,-11
Mechanical 13:
  lines w0.1: -7,-11 -7,11 7,11 7,-11 -7,-11
Mechanical 15:
  lines w0.1: -0.5,0 0.5,0 ; 0,-0.5 0,0.5 ; -8,-12 -8,12 8,12 8,-12 -8,-12
3D body: height 3.5, standoff 0, extent -7,-11 7,11

## BGA127P9X17-153 [mm] "BGA, 153-Leads, Body 22x14mm, Pitch 1.27mm"
height 3.5
pads (153):
  round 0.6 smd: A1(-5.08,10.16) A2(-3.81,10.16) A3(-2.54,10.16) A4(-1.27,10.16) A5(0,10.16) A6(1.27,10.16) A7(2.54,10.16) A8(3.81,10.16) A9(5.08,10.16) B1(-5.08,8.89) B2(-3.81,8.89) B3(-2.54,8.89) B4(-1.27,8.89) B5(0,8.89) B6(1.27,8.89) B7(2.54,8.89) B8(3.81,8.89) B9(5.08,8.89) C1(-5.08,7.62) C2(-3.81,7.62) C3(-2.54,7.62) C4(-1.27,7.62) C5(0,7.62) C6(1.27,7.62) C7(2.54,7.62) C8(3.81,7.62) C9(5.08,7.62) D1(-5.08,6.35) D2(-3.81,6.35) D3(-2.54,6.35) D4(-1.27,6.35) D5(0,6.35) D6(1.27,6.35) D7(2.54,6.35) D8(3.81,6.35) D9(5.08,6.35) E1(-5.08,5.08) E2(-3.81,5.08) E3(-2.54,5.08) E4(-1.27,5.08) E5(0,5.08) E6(1.27,5.08) E7(2.54,5.08) E8(3.81,5.08) E9(5.08,5.08) F1(-5.08,3.81) F2(-3.81,3.81) F3(-2.54,3.81) F4(-1.27,3.81) F5(0,3.81) F6(1.27,3.81) F7(2.54,3.81) F8(3.81,3.81) F9(5.08,3.81) G1(-5.08,2.54) G2(-3.81,2.54) G3(-2.54,2.54) G4(-1.27,2.54) G5(0,2.54) G6(1.27,2.54) G7(2.54,2.54) G8(3.81,2.54) G9(5.08,2.54) H1(-5.08,1.27) H2(-3.81,1.27) H3(-2.54,1.27) H4(-1.27,1.27) H5(0,1.27) H6(1.27,1.27) H7(2.54,1.27) H8(3.81,1.27) H9(5.08,1.27) J1(-5.08,0) J2(-3.81,0) J3(-2.54,0) J4(-1.27,0) J5(0,0) J6(1.27,0) J7(2.54,0) J8(3.81,0) J9(5.08,0) K1(-5.08,-1.27) K2(-3.81,-1.27) K3(-2.54,-1.27) K4(-1.27,-1.27) K5(0,-1.27) K6(1.27,-1.27) K7(2.54,-1.27) K8(3.81,-1.27) K9(5.08,-1.27) L1(-5.08,-2.54) L2(-3.81,-2.54) L3(-2.54,-2.54) L4(-1.27,-2.54) L5(0,-2.54) L6(1.27,-2.54) L7(2.54,-2.54) L8(3.81,-2.54) L9(5.08,-2.54) M1(-5.08,-3.81) M2(-3.81,-3.81) M3(-2.54,-3.81) M4(-1.27,-3.81) M5(0,-3.81) M6(1.27,-3.81) M7(2.54,-3.81) M8(3.81,-3.81) M9(5.08,-3.81) N1(-5.08,-5.08) N2(-3.81,-5.08) N3(-2.54,-5.08) N4(-1.27,-5.08) N5(0,-5.08) N6(1.27,-5.08) N7(2.54,-5.08) N8(3.81,-5.08) N9(5.08,-5.08) P1(-5.08,-6.35) P2(-3.81,-6.35) P3(-2.54,-6.35) P4(-1.27,-6.35) P5(0,-6.35) P6(1.27,-6.35) P7(2.54,-6.35) P8(3.81,-6.35) P9(5.08,-6.35) R1(-5.08,-7.62) R2(-3.81,-7.62) R3(-2.54,-7.62) R4(-1.27,-7.62) R5(0,-7.62) R6(1.27,-7.62) R7(2.54,-7.62) R8(3.81,-7.62) R9(5.08,-7.62) T1(-5.08,-8.89) T2(-3.81,-8.89) T3(-2.54,-8.89) T4(-1.27,-8.89) T5(0,-8.89) T6(1.27,-8.89) T7(2.54,-8.89) T8(3.81,-8.89) T9(5.08,-8.89) U1(-5.08,-10.16) U2(-3.81,-10.16) U3(-2.54,-10.16) U4(-1.27,-10.16) U5(0,-10.16) U6(1.27,-10.16) U7(2.54,-10.16) U8(3.81,-10.16) U9(5.08,-10.16)
Top Overlay:
  circle w0.25: c-7.658,10.16 r0.125
  region: -6.008,11.005 -7.008,10.005 -7.008,11.005
  lines w0.2: -7.008,10.005 -6.008,11.005 ; -7.008,-10.995 6.993,-10.995 6.993,11.005 -7.008,11.005 -7.008,-10.995
Mechanical 13:
  lines w0.1: -7.008,-10.995 6.993,-10.995 6.993,11.005 -7.008,11.005 -7.008,-10.995
Mechanical 15:
  lines w0.1: -0.507,0.005 0.492,0.005 ; -0.008,-0.495 -0.008,0.505 ; -8.007,-11.995 7.992,-11.995 7.992,12.005 -8.007,12.005 -8.007,-11.995
3D body: height 3.5, standoff 0, extent -7.007,-10.995 6.993,11.005